# Altium footprint library ONSHORE_302-S101.PcbLib: 1 footprints
Each footprint in its own frame and in the unit in brackets; x right, y up, seen from the top. Pads: shape width x height; smd on the part's side, far side on the other; paste and mask are expansions set on the pad; w line width, h text height; cw(c..) or ccw(c..) is an arc to the next point about the centre after c.
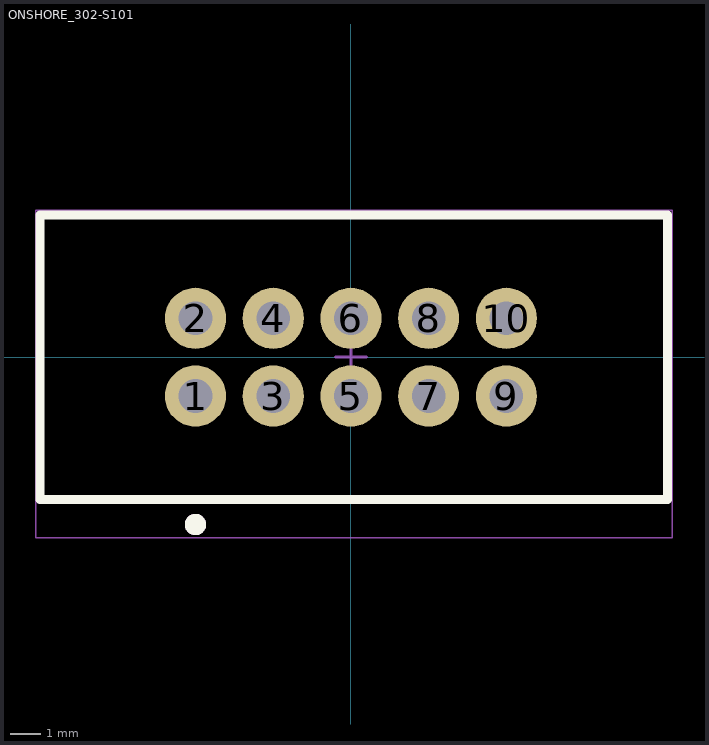
[diagram p0: the footprint, top view; thin cyan lines are the x and y axes]

## ONSHORE_302-S101 [mm] "ONSHORE_302-S101"
height 9
pads (10):
  round 2 hole 1.1 mask+0.05: 1(-5.08,-1.27) 2(-5.08,1.27) 3(-2.54,-1.27) 4(-2.54,1.27) 5(0,-1.27) 6(0,1.27) 7(2.54,-1.27) 8(2.54,1.27) 9(5.08,-1.27) 10(5.08,1.27)
Top Overlay:
  circle w0.4: c-5.08,-5.47 r0.15
  lines w0.3: -10.16,-4.65 -10.16,4.65 10.35,4.65 10.35,-4.65 -10.16,-4.65
Mechanical 13:
  circle w0.4: c-5.08,-5.47 r0.15
  lines w0.1: -10.16,-4.65 -10.16,4.65 10.35,4.65 10.35,-4.65 -10.16,-4.65
Mechanical 15:
  lines w0.05: -10.3,-5.9 10.5,-5.9 10.5,4.8 -10.3,4.8 -10.3,-5.9
  lines w0.1: -0.5,0 0.5,0 ; 0,-0.5 0,0.5
3D body "ONSHORE_302-S101.step": height 9, standoff -3, extent -10.16,-4.55 10.16,4.55